# EAGLE library part DTM13-12PA (library Virulent_HW)
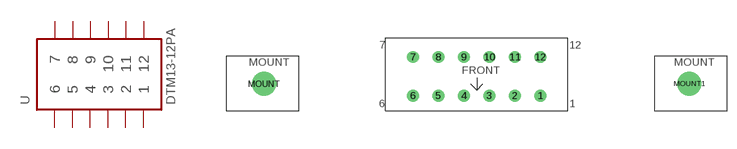
[diagram p9: symbol with the pads of DTM13-12P; footprint DTM13-12P]

Designator prefix -

## DTM13-12PA  [DTM13-12P]
1  1  pas
2  2  pas
3  3  pas
4  4  pas
5  5  pas
6  6  pas
7  7  pas
8  8  pas
9  9  pas
10  10  pas
11  11  pas
12  12  pas

## Footprint DTM13-12P (pad centres in mm)
drill 1.29: 1 10.48,2.45; 2 6.29,2.45; 3 2.1,2.45; 4 -2.1,2.45; 5 -6.29,2.45; 6 -10.48,2.45; 7 -10.48,8.8; 8 -6.29,8.8; 9 -2.1,8.8; 10 2.1,8.8; 11 6.29,8.8; 12 10.48,8.8
drill 3: MOUNT -35,4.41; MOUNT1 35,4.41